# Altium footprint library PcbLib1.PcbLib: 3 footprints
Each footprint in its own frame and in the unit in brackets; x right, y up, seen from the top. Pads: shape width x height; smd on the part's side, far side on the other; paste and mask are expansions set on the pad; w line width, h text height; cw(c..) or ccw(c..) is an arc to the next point about the centre after c.
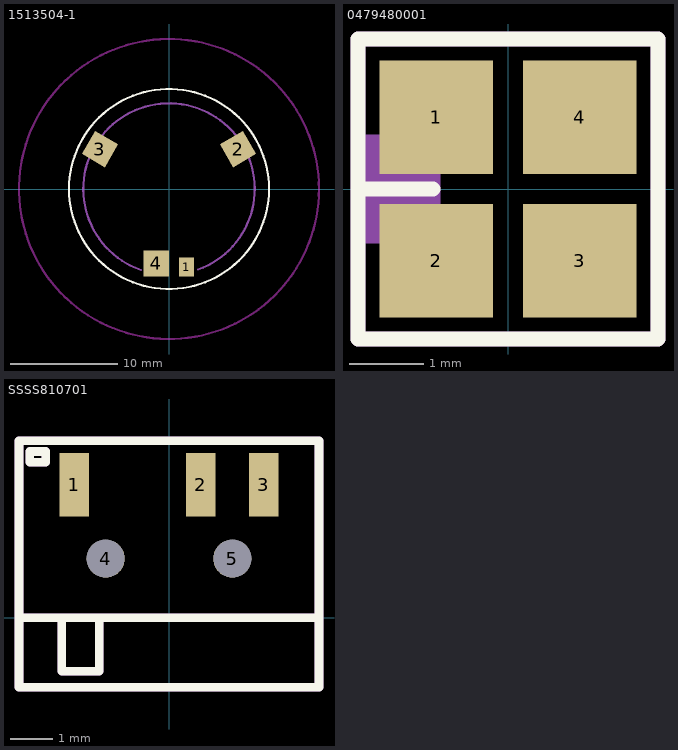
[diagram p0: the footprints below, top view; thin cyan lines are the x and y axes]

## 1513504-1 [mm]
height 6
pads (4):
  rect 1.4x1.74 smd: 1(1.651,-7.28)
  rect 2.5x2.5 smd rot 30: 2(6.443,3.72)
  rect 2.5x2.5 smd rot 150: 3(-6.443,3.72)
  rect 2.4x2.4 smd: 4(-1.2,-6.95)
Top Overlay:
  circle w0.203: c0,0 r9.334
  text ".designator" at -8.128,-10.922 h1.52
Keep-Out Layer:
  circle w0.203: c0,0 r14
Mechanical 2:
  lines w0.203: -2.617,-7.56 cw(c0,0) 2.714,-7.526
3D body: height 6, standoff -0.05, extent -7.974,-7.501 7.974,8.091

## 0479480001 [mm]
pads (4):
  rect 1.54x1.54 smd paste-0.435: 1(-0.97,0.97) 2(-0.97,-0.97) 3(0.97,-0.97) 4(0.97,0.97)
Top Overlay:
  lines w0.203: -2.032,0 -1.016,0 ; -2.032,-2.032 2.032,-2.032 2.032,2.032 -2.032,2.032 -2.032,-2.032
  text ".Designator" at -2.032,2.413 h0.76
Mechanical 2:
  rectangle: -2.032,-0.635 -1.016,0.635
  lines w0.203: -2.032,-0.635 -1.016,-0.635 -1.016,0.635 -2.032,0.635 ; -2.032,-2.032 -2.032,2.032 2.032,2.032 2.032,-2.032 -2.032,-2.032
3D body: height 4, standoff 0, extent -1.5,-1.5 1.5,1.5

## SSSS810701 [mm]
height 1.4
pads (5):
  rect 0.7x1.5 smd: 1(-2.25,3.147) 2(0.75,3.147) 3(2.25,3.147)
  round 0.9 hole 0.9 unplated: 4(-1.5,1.397) 5(1.5,1.397)
Top Overlay:
  lines w0.203: -3.556,0 3.556,0 ; -2.54,0 -2.54,-1.27 -1.651,-1.27 -1.651,0 ; -3.556,-1.651 -3.556,4.191 3.556,4.191 3.556,-1.397 3.556,-1.651 -3.556,-1.651 ; -3.302,3.683 -3.302,3.937 -2.921,3.937 -2.921,3.683 -3.302,3.683
  text ".Designator" at -3.556,4.572 h0.76
Mechanical 2:
  lines w0.203: -3.556,0 3.556,0 ; -2.54,0 -2.54,-1.27 -1.651,-1.27 -1.651,0 ; -3.556,-1.651 3.556,-1.651 3.556,-1.397 3.556,4.191 -3.556,4.191 -3.556,-1.651 ; -3.302,3.683 -2.921,3.683 -2.921,3.937 -3.302,3.937 -3.302,3.683
3D body: height 1.4, standoff -0.5, extent -3.35,-1.403 3.35,3.597